# EAGLE library part LT1308 (library rfid)
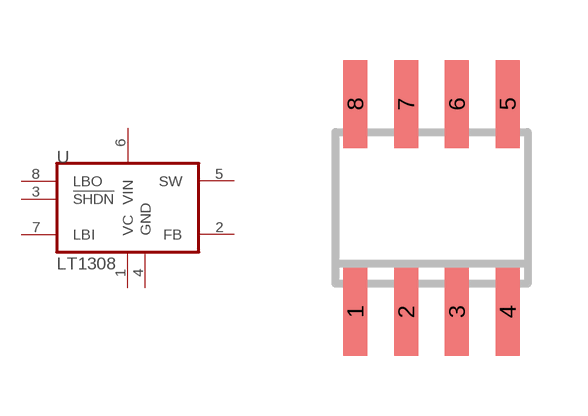
[diagram p4: symbol with the pads of SO-08; footprint SO-08]

Designator prefix U

## LT1308A  [SO-08]
1  VC
2  FB
3  !SHDN
4  GND
5  SW
6  VIN
7  LBI
8  LBO

## Footprint SO-08 (pad centres in mm)
Small Outline Narrow Plastic Gull Wing 150-mil body, package type SN
smd 0.6 x 2.2: 1 -1.905,-2.6; 2 -0.635,-2.6; 3 0.635,-2.6; 4 1.905,-2.6; 5 1.905,2.6; 6 0.635,2.6; 7 -0.635,2.6; 8 -1.905,2.6